# Altium footprint library Transistor.PcbLib: 227 footprints (part 7 of 15)
Each footprint in its own frame and in the unit in brackets; x right, y up, seen from the top. Pads: shape width x height; smd on the part's side, far side on the other; paste and mask are expansions set on the pad; w line width, h text height; cw(c..) or ccw(c..) is an arc to the next point about the centre after c.
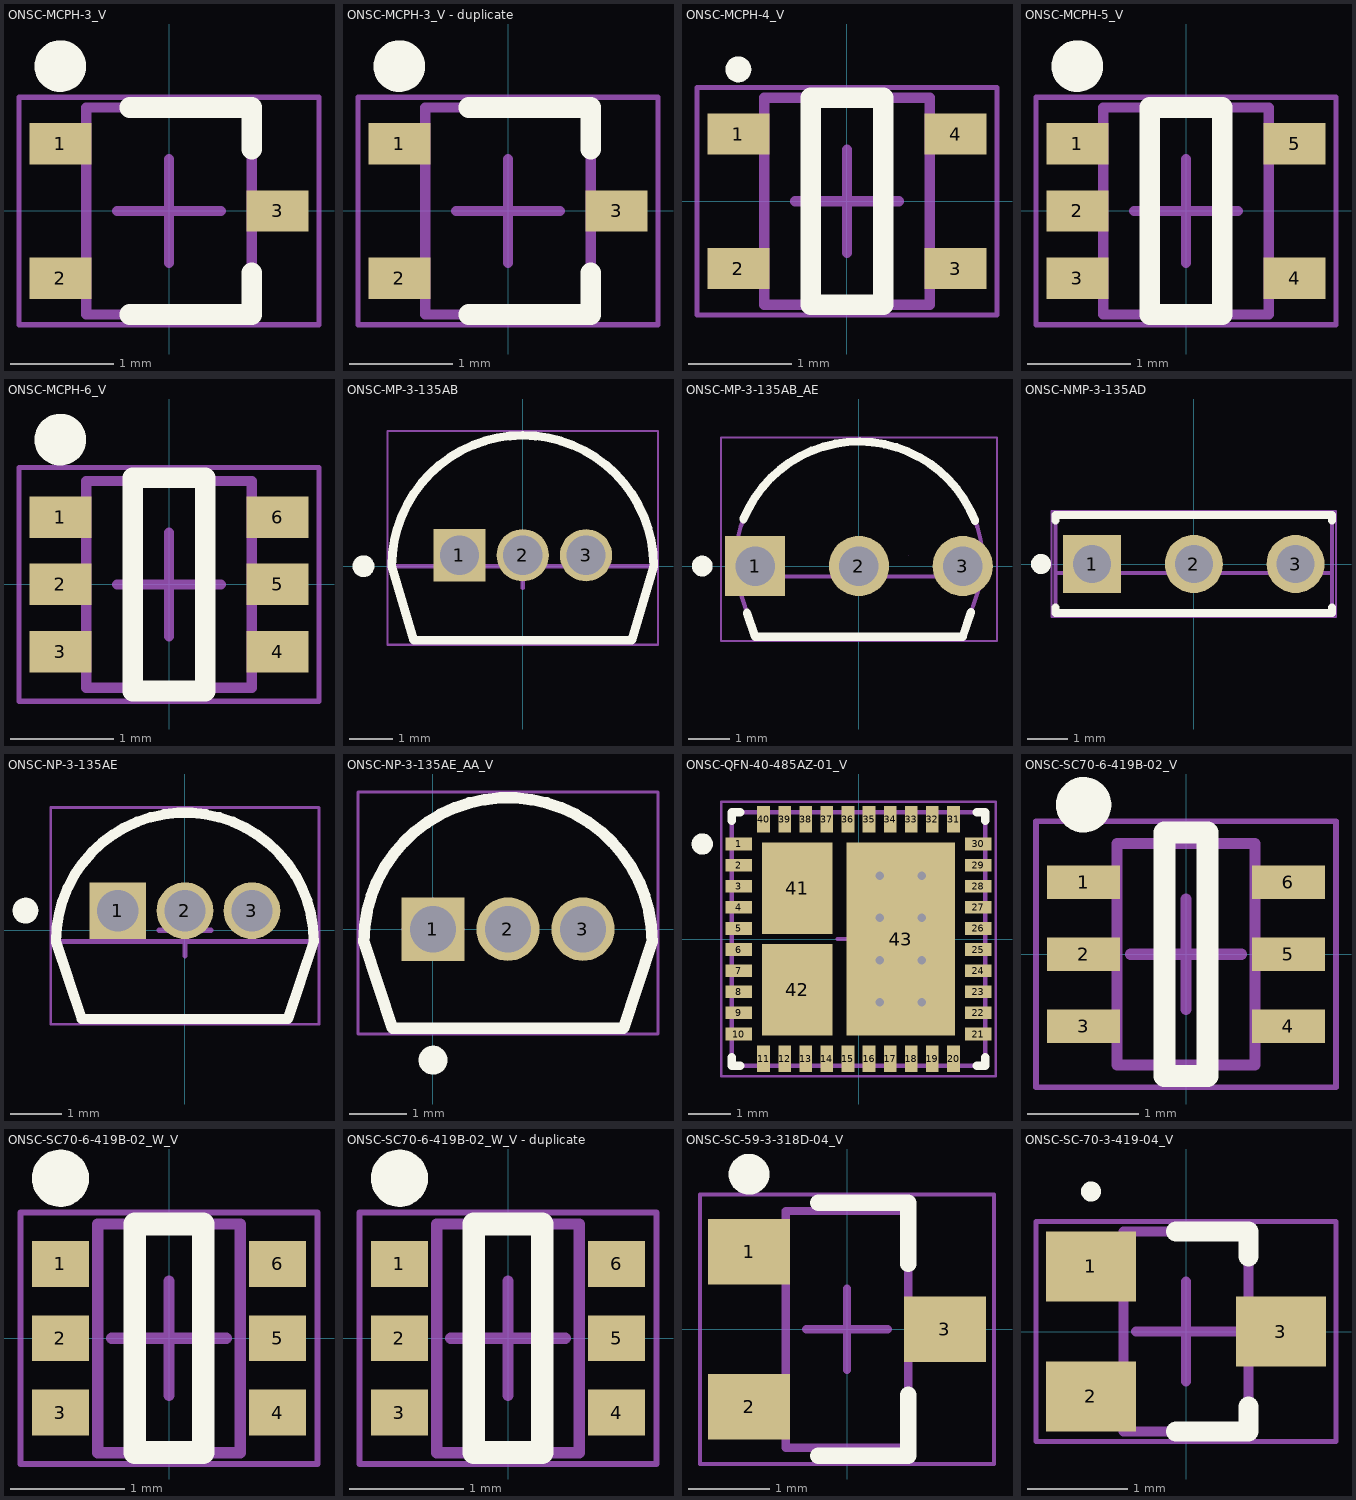
[diagram p6: the footprints below, top view; thin cyan lines are the x and y axes]

## ONSC-MCPH-3_V [mm] "SOT23, 3-Leads, Body 2x1.6mm, Pitch 0.65mm"
height 0.9
pads (3):
  rect 0.6x0.4 smd: 1(-1.05,0.65) 2(-1.05,-0.65) 3(1.05,0)
Top Overlay:
  circle w0.25: c-1.05,1.4 r0.125
  lines w0.2: -0.379,-1 0.8,-1 0.8,-0.6 ; -0.379,1 0.8,1 0.8,0.6
Mechanical 13:
  lines w0.1: -0.8,-1 0.8,-1 0.8,1 -0.8,1 -0.8,-1
Mechanical 15:
  lines w0.05: -1.45,-1.1 1.45,-1.1 1.45,1.1 -1.45,1.1 -1.45,-1.1
  lines w0.1: -0.5,0 0.5,0 ; 0,-0.5 0,0.5
3D body: height 0.9, standoff 0, extent -0.8,-1 0.8,1

## ONSC-MCPH-3_V - duplicate [mm] "SOT23, 3-Leads, Body 2x1.6mm, Pitch 0.65mm"
height 0.9
pads (3):
  rect 0.6x0.4 smd: 1(-1.05,0.65) 2(-1.05,-0.65) 3(1.05,0)
Top Overlay:
  circle w0.25: c-1.05,1.4 r0.125
  lines w0.2: -0.379,-1 0.8,-1 0.8,-0.6 ; -0.379,1 0.8,1 0.8,0.6
Mechanical 13:
  lines w0.1: -0.8,-1 0.8,-1 0.8,1 -0.8,1 -0.8,-1
Mechanical 15:
  lines w0.05: -1.45,-1.1 1.45,-1.1 1.45,1.1 -1.45,1.1 -1.45,-1.1
  lines w0.1: -0.5,0 0.5,0 ; 0,-0.5 0,0.5
3D body: height 0.9, standoff 0, extent -0.8,-1 0.8,1

## ONSC-MCPH-4_V [mm] "SOT23, 4-Leads, Body 2x1.6mm, Pitch 0.65mm"
height 0.9
pads (4):
  rect 0.6x0.4 smd paste-0.06: 1(-1.05,0.65) 2(-1.05,-0.65) 3(1.05,-0.65) 4(1.05,0.65)
Top Overlay:
  circle w0.125: c-1.05,1.275 r0.062
  lines w0.2: -0.35,-1 0.35,-1 0.35,1 -0.35,1 -0.35,-1
Mechanical 13:
  lines w0.1: -0.8,-1 -0.8,1 0.8,1 0.8,-1 -0.8,-1
Mechanical 15:
  lines w0.05: -1.45,-1.1 -1.45,1.1 1.45,1.1 1.45,-1.1 -1.45,-1.1
  lines w0.1: -0.5,0 0.5,0 ; 0,-0.5 0,0.5
3D body: height 0.9, standoff 0, extent -0.8,-1 0.8,1

## ONSC-MCPH-5_V [mm] "SOT23, 5-Leads, Body 2x1.6mm, Pitch 0.65mm"
height 0.9
pads (5):
  rect 0.6x0.4 smd: 1(-1.05,0.65) 2(-1.05,0) 3(-1.05,-0.65) 4(1.05,-0.65) 5(1.05,0.65)
Top Overlay:
  circle w0.25: c-1.05,1.4 r0.125
  lines w0.2: -0.35,-1 -0.35,1 0.35,1 0.35,-1 -0.35,-1
Mechanical 13:
  lines w0.1: -0.8,-1 -0.8,1 0.8,1 0.8,-1 -0.8,-1
Mechanical 15:
  lines w0.05: -1.45,-1.1 -1.45,1.1 1.45,1.1 1.45,-1.1 -1.45,-1.1
  lines w0.1: -0.5,0 0.5,0 ; 0,-0.5 0,0.5
3D body: height 0.9, standoff 0, extent -0.8,-1 0.8,1

## ONSC-MCPH-6_V [mm] "SOT23, 6-Leads, Body 2x1.6mm, Pitch 0.65mm"
height 0.9
pads (6):
  rect 0.6x0.4 smd: 1(-1.05,0.65) 2(-1.05,0) 3(-1.05,-0.65) 4(1.05,-0.65) 5(1.05,0) 6(1.05,0.65)
Top Overlay:
  circle w0.25: c-1.05,1.4 r0.125
  lines w0.2: -0.35,-1.03 0.35,-1.03 0.35,1.03 -0.35,1.03 -0.35,-1.03
Mechanical 13:
  lines w0.1: -0.8,-1 -0.8,1 0.8,1 0.8,-1 -0.8,-1
Mechanical 15:
  lines w0.05: -1.45,-1.13 -1.45,1.13 1.45,1.13 1.45,-1.13 -1.45,-1.13
  lines w0.1: -0.5,0 0.5,0 ; 0,-0.5 0,0.5
3D body: height 0.9, standoff 0, extent -0.8,-1 0.8,1

## ONSC-MP-3-135AB [mm] "MP, 3-Leads, Body Dia 6 mm, Pitch 1.45mm"
height 11.5
pads (3):
  rect 1.2x1.2 hole 0.9: 1(-1.45,0.25)
  round 1.2 hole 0.9: 2(0,0.25) 3(1.45,0.25)
Top Overlay:
  circle w0.25: c-3.65,0 r0.125
  lines w0.2: -3,0 cw(c0,0) 3,0 2.5,-1.7 -2.5,-1.7 -3,0
Mechanical 13:
  lines w0.1: -3,0 cw(c0,0) 3,0 ; -3,0 -2.5,-1.7 2.5,-1.7 3,0 ; -3,0 3,0
Mechanical 15:
  lines w0.05: -3.1,-1.8 -3.1,3.1 3.1,3.1 3.1,-1.8 -3.1,-1.8
  lines w0.1: -0.5,0 0.5,0 ; 0,-0.5 0,0.5
3D body: height 11.5, standoff 3, extent -3.001,-1.701 3.001,0.001
3D body: height 11.5, standoff 3, extent -3.001,-0.001 3.001,3.001

## ONSC-MP-3-135AB_AE [mm] "TO, 3-Leads, Body Dia 6mm, Pitch 2.5mm"
height 12.7
pads (3):
  rect 1.45x1.45 hole 0.95: 1(-2.5,0)
  round 1.45 hole 0.95: 2(0,0) 3(2.5,0)
Top Overlay:
  circle w0.25: c-3.775,0 r0.125
  lines w0.2: -2.781,1.125 cw(c0,0) 2.797,1.085 ; -2.694,-1.125 -2.5,-1.7 2.5,-1.7 2.7,-1.108
Mechanical 13:
  lines w0.005: 1.2,0.25 ccw(c1.2,0.25) 1.2,0.25
  lines w0.1: -2.989,-0.25 2.989,-0.25 2.5,-1.7 -2.5,-1.7 -2.989,-0.25 cw(c0,0.004) 2.989,-0.249
Mechanical 15:
  lines w0.05: -3.325,-1.8 -3.325,3.1 3.325,3.1 3.325,-1.8 -3.325,-1.8
  lines w0.1: -0.5,0 0.5,0 ; 0,-0.5 0,0.5
3D body: height 4, standoff -10, extent -2.75,-0.25 -1.2,0.25
3D body: height 12.7, standoff 4, extent -2.989,-1.7 2.989,-0.249
3D body: height 12.7, standoff 4, extent -2.999,-0.25 2.999,3
3D body: height 4, standoff -10, extent -0.25,-0.25 0.25,0.25
3D body: height 4, standoff -10, extent 1.2,-0.25 2.75,0.25

## ONSC-NMP-3-135AD [mm] "NMP, 3-Leads, Body 6.9x2.45mm, Pitch 2.54mm"
height 6.5
pads (3):
  rect 1.45x1.45 hole 0.95: 1(-2.54,0)
  round 1.45 hole 0.95: 2(0,0) 3(2.54,0)
Top Overlay:
  circle w0.25: c-3.815,0 r0.125
  lines w0.2: -3.45,-1.083 -3.45,-1.225 3.45,-1.225 3.45,-1.083 ; -3.45,1.083 -3.45,1.225 3.45,1.225 3.45,1.083
Mechanical 13:
  lines w0.1: -3.45,-0.225 3.45,-0.225 ; -3.45,-1.225 3.45,-1.225 3.45,1.225 -3.45,1.225 -3.45,-1.225
Mechanical 15:
  lines w0.05: -3.55,-1.325 -3.55,1.325 3.55,1.325 3.55,-1.325 -3.55,-1.325
  lines w0.1: -0.5,0 0.5,0 ; 0,-0.5 0,0.5
3D body: height 6.5, standoff 4.44, extent -3.455,-1.228 3.445,0.837
3D body: height 6.5, standoff 2, extent -3.45,-0.225 3.45,1.225
3D body: height 5.5, standoff 2, extent -3.45,-1.225 3.45,-0.225
3D body "2.step": height 2, standoff -13, extent -2.79,-0.225 2.79,0.225

## ONSC-NP-3-135AE [mm] "TO, 3-Leads, Body Dia 5 mm, Pitch 1.3 mm"
height 7.1
pads (3):
  rect 1.1x1.1 hole 0.8: 1(-1.3,0.38)
  round 1.1 hole 0.8: 2(0,0.38) 3(1.3,0.38)
Top Overlay:
  circle w0.25: c-3.092,0.38 r0.125
  lines w0.2: -2.5,-0.22 cw(c0,-0.22) 2.5,-0.22 2,-1.72 -2,-1.72 -2.5,-0.22
Mechanical 13:
  lines w0.1: -2.5,-0.22 cw(c0,-0.22) 2.5,-0.22 ; -2.5,-0.22 -2,-1.72 2,-1.72 2.5,-0.22 ; -2.5,-0.22 2.5,-0.22
Mechanical 15:
  lines w0.05: -2.6,-1.82 2.6,-1.82 2.6,2.38 -2.6,2.38 -2.6,-1.82
  lines w0.1: -0.5,0 0.5,0 ; 0,-0.5 0,0.5
3D body: height 7.1, standoff 1.9, extent -2.5,-1.719 2.5,2.279

## ONSC-NP-3-135AE_AA_V [mm] "NP, 3-Leads, Body 5x4mm, Pitch 1.3mm"
height 5
pads (3):
  rect 1.1x1.1 hole 0.8 paste-0.06: 1(0,0)
  round 1.1 hole 0.8 paste-0.06: 2(1.3,0) 3(2.6,0)
Top Overlay:
  circle w0.25: c0,-2.27 r0.125
  lines w0.2: -1.2,-0.22 cw(c1.3,-0.22) 3.8,-0.22 3.3,-1.72 -0.7,-1.72 -1.2,-0.22
Mechanical 13:
  lines w0.005: 0.28,-0.22 0.28,0.22 ; 1.05,-0.22 1.05,0.22 ; -0.195,-0.22 -0.195,0.22 0.255,0.22 0.255,-0.22 -0.195,-0.22 ; 1.075,-0.22 1.525,-0.22 1.525,0.22 1.075,0.22 1.075,-0.22 ; 2.32,-0.22 2.82,-0.22 2.82,0.22 2.32,0.22 2.32,-0.22 ; 2.345,-0.22 2.345,0.22 2.795,0.22 2.795,-0.22 2.345,-0.22
  lines w0.1: -1.2,-0.22 cw(c1.3,-0.22) 3.8,-0.22 3.3,-1.72 -0.7,-1.72 -1.2,-0.22
Mechanical 15:
  lines w0.05: -1.3,-1.82 3.9,-1.82 3.9,2.38 -1.3,2.38 -1.3,-1.82
  lines w0.1: -0.5,0 0.5,0 ; 0,-0.5 0,0.5
3D body: height -1.4, standoff -2, extent -0.195,-0.22 0.28,0.22
3D body: height -1.4, standoff -2, extent 2.32,-0.22 2.82,0.22
3D body: height -1.4, standoff -2, extent 1.05,-0.22 1.525,0.22
3D body: height 5, standoff 0, extent -1.2,-1.719 3.8,2.279
3D body: height -2, standoff -4, extent -0.195,-0.22 0.255,0.22
3D body: height -2, standoff -4, extent 1.075,-0.22 1.525,0.22
3D body: height -2, standoff -4, extent 2.345,-0.22 2.795,0.22
3D body: height 0, standoff -1.4, extent -0.195,-0.22 0.255,0.22
3D body: height 0, standoff -1.4, extent 1.075,-0.22 1.525,0.22
3D body: height 0, standoff -1.4, extent 2.345,-0.22 2.795,0.22

## ONSC-QFN-40-485AZ-01_V [mm] "QFN, 40-Leads, Body 6x6mm, Pitch 0.5mm"
height 1
pads (43):
  rect 0.63x0.3 smd: 1(-2.835,2.25) 2(-2.835,1.75) 3(-2.835,1.25) 4(-2.835,0.75) 5(-2.835,0.25) 6(-2.835,-0.25) 7(-2.835,-0.75) 8(-2.835,-1.25) 9(-2.835,-1.75) 10(-2.835,-2.25) 21(2.835,-2.25) 22(2.835,-1.75) 23(2.835,-1.25) 24(2.835,-0.75) 25(2.835,-0.25) 26(2.835,0.25) 27(2.835,0.75) 28(2.835,1.25) 29(2.835,1.75) 30(2.835,2.25)
  rect 0.3x0.63 smd: 11(-2.25,-2.835) 12(-1.75,-2.835) 13(-1.25,-2.835) 14(-0.75,-2.835) 15(-0.25,-2.835) 16(0.25,-2.835) 17(0.75,-2.835) 18(1.25,-2.835) 19(1.75,-2.835) 20(2.25,-2.835) 31(2.25,2.835) 32(1.75,2.835) 33(1.25,2.835) 34(0.75,2.835) 35(0.25,2.835) 36(-0.25,2.835) 37(-0.75,2.835) 38(-1.25,2.835) 39(-1.75,2.835) 40(-2.25,2.835)
  rect 1.66x2.16 smd: 41(-1.45,1.2) 42(-1.45,-1.2)
  rect 2.56x4.56 smd: 43(1,0)
via 0.5,-0.5 diameter 0.5 hole 0.2
via 1.5,-0.5 diameter 0.5 hole 0.2
via 1.5,0.5 diameter 0.5 hole 0.2
via 0.5,0.5 diameter 0.5 hole 0.2
via 1.5,1.5 diameter 0.5 hole 0.2
via 0.5,1.5 diameter 0.5 hole 0.2
via 1.5,-1.5 diameter 0.5 hole 0.2
via 0.5,-1.5 diameter 0.5 hole 0.2
Top Overlay:
  circle w0.25: c-3.7,2.25 r0.125
  lines w0.2: -3,-2.8 -3,-3 -2.8,-3 ; -3,2.8 -3,3 -2.8,3 ; 2.8,-3 3,-3 3,-2.8 ; 2.8,3 3,3 3,2.8
Mechanical 13:
  lines w0.1: -3,-3 -3,3 3,3 3,-3 -3,-3
Mechanical 15:
  lines w0.05: -3.25,-3.25 -3.25,3.25 3.25,3.25 3.25,-3.25 -3.25,-3.25
  lines w0.1: -0.5,0 0.5,0 ; 0,-0.5 0,0.5
3D body: height 1, standoff 0, extent -3,-3 3,3

## ONSC-SC70-6-419B-02_V [mm] "SOT23, 6-Leads, Body 2x1.25mm, Pitch 0.65mm"
height 1.1
pads (6):
  rect 0.66x0.3 smd: 1(-0.925,0.65) 2(-0.925,0) 3(-0.925,-0.65) 4(0.925,-0.65) 5(0.925,0) 6(0.925,0.65)
Top Overlay:
  circle w0.25: c-0.925,1.35 r0.125
  lines w0.2: -0.195,-1.1 0.195,-1.1 0.195,1.1 -0.195,1.1 -0.195,-1.1
Mechanical 13:
  lines w0.1: -0.625,-1 -0.625,1 0.625,1 0.625,-1 -0.625,-1
Mechanical 15:
  lines w0.05: -1.355,-1.2 -1.355,1.2 1.355,1.2 1.355,-1.2 -1.355,-1.2
  lines w0.1: -0.5,0 0.5,0 ; 0,-0.5 0,0.5
3D body: height 1.1, standoff 0, extent -0.625,-1 0.625,1

## ONSC-SC70-6-419B-02_W_V [mm] "SOT23, 6-Leads, Body 2x1.25mm, Pitch 0.65mm"
height 1.1
pads (6):
  rect 0.5x0.4 smd: 1(-0.95,0.65) 2(-0.95,0) 3(-0.95,-0.65) 4(0.95,-0.65) 5(0.95,0) 6(0.95,0.65)
Top Overlay:
  circle w0.25: c-0.95,1.4 r0.125
  lines w0.2: -0.3,-1 -0.3,1 0.3,1 0.3,-1 -0.3,-1
Mechanical 13:
  lines w0.1: -0.625,-1 0.625,-1 0.625,1 -0.625,1 -0.625,-1
Mechanical 15:
  lines w0.05: -1.3,-1.1 1.3,-1.1 1.3,1.1 -1.3,1.1 -1.3,-1.1
  lines w0.1: -0.5,0 0.5,0 ; 0,-0.5 0,0.5
3D body: height 1.1, standoff 0, extent -0.625,-1 0.625,1

## ONSC-SC70-6-419B-02_W_V - duplicate [mm] "SOT23, 6-Leads, Body 2x1.25mm, Pitch 0.65mm"
height 1.1
pads (6):
  rect 0.5x0.4 smd: 1(-0.95,0.65) 2(-0.95,0) 3(-0.95,-0.65) 4(0.95,-0.65) 5(0.95,0) 6(0.95,0.65)
Top Overlay:
  circle w0.25: c-0.95,1.4 r0.125
  lines w0.2: -0.3,-1 -0.3,1 0.3,1 0.3,-1 -0.3,-1
Mechanical 13:
  lines w0.1: -0.625,-1 0.625,-1 0.625,1 -0.625,1 -0.625,-1
Mechanical 15:
  lines w0.05: -1.3,-1.1 1.3,-1.1 1.3,1.1 -1.3,1.1 -1.3,-1.1
  lines w0.1: -0.5,0 0.5,0 ; 0,-0.5 0,0.5
3D body: height 1.1, standoff 0, extent -0.625,-1 0.625,1

## ONSC-SC-59-3-318D-04_V [mm] "SOT23, 3-Leads, Body 2.9x1.5mm, Pitch 0.95mm"
height 1.3
pads (3):
  rect 1x0.8 smd: 1(-1.2,0.95) 2(-1.2,-0.95) 3(1.2,0)
Top Overlay:
  circle w0.25: c-1.2,1.9 r0.125
  lines w0.2: -0.354,-1.55 0.75,-1.55 0.75,-0.8 ; -0.354,1.55 0.75,1.55 0.75,0.8
Mechanical 13:
  lines w0.1: -0.75,-1.45 -0.75,1.45 0.75,1.45 0.75,-1.45 -0.75,-1.45
Mechanical 15:
  lines w0.05: -1.8,-1.65 -1.8,1.65 1.8,1.65 1.8,-1.65 -1.8,-1.65
  lines w0.1: -0.5,0 0.5,0 ; 0,-0.5 0,0.5
3D body: height 1.3, standoff 0.01, extent -0.75,-1.45 0.75,1.45

## ONSC-SC-70-3-419-04_V [mm] "SOT23, 3-Leads, Body 2x1.25mm, Pitch 0.65mm"
height 1
pads (3):
  rect 0.9x0.7 smd: 1(-0.95,0.65) 2(-0.95,-0.65) 3(0.95,0)
Top Overlay:
  circle w0.1: c-0.95,1.4 r0.05
  lines w0.2: -0.1,-1 0.625,-1 0.625,-0.75 ; -0.1,1 0.625,1 0.625,0.75
Mechanical 13:
  lines w0.1: -0.625,-1 -0.625,1 0.625,1 0.625,-1 -0.625,-1
Mechanical 15:
  lines w0.05: -1.5,-1.1 -1.5,1.1 1.5,1.1 1.5,-1.1 -1.5,-1.1
  lines w0.1: -0.5,0 0.5,0 ; 0,-0.5 0,0.5
3D body: height 1, standoff 0, extent -0.625,-1 0.625,1